# Altium schematic symbol library Ac_Dc.SchLib: 1 symbol
Pins are listed as number, name and electrical type; pins without a type are passive.

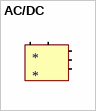
[diagram p0: symbol AC/DC]

## AC/DC
designator *
pins: 7, 8, 9, 10 N, 11 L